# EAGLE library part MAGJACK (library BaseApp)
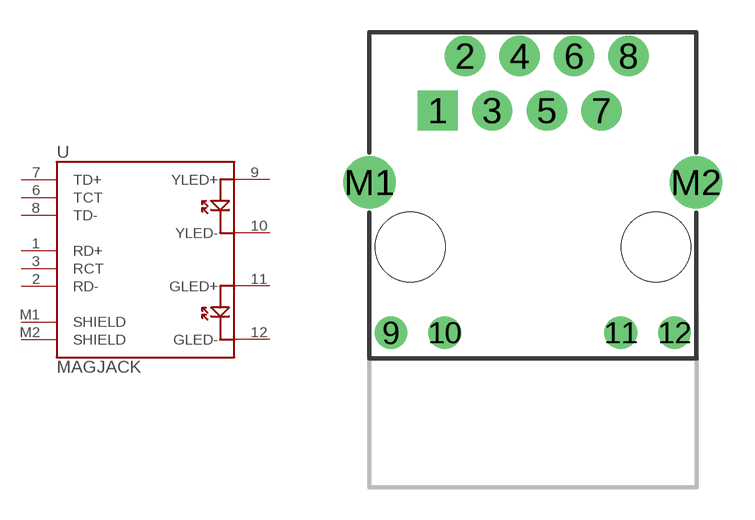
[diagram p14: symbol with the pads of MAGJACK; footprint MAGJACK]

Designator prefix -

## MAGJACK  [MAGJACK]
1  RD+
2  RD-
3  RCT
6  TCT
7  TD+
8  TD-
9  YLED+
10  YLED-
11  GLED+
12  GLED-
M1  SHIELD
M2  SHIELD

## Footprint MAGJACK (pad centres in mm)
drill 1 pad 1.88 square: 1 -4.445,6.015
drill 1 pad 1.88: 2 -3.175,8.555; 3 -1.905,6.015; 4 -0.635,8.555; 5 0.635,6.015; 6 1.905,8.555; 7 3.175,6.015; 8 4.445,8.555
drill 1.02 pad 1.27: 9 -6.62,-4.33; 10 -4.12,-4.33; 11 4.08,-4.33; 12 6.58,-4.33
drill 1.63 pad 2.184: M1 -7.62,2.67; M2 7.58,2.67
hole 3.25 at -5.715,-0.335
hole 3.25 at 5.715,-0.335